# EAGLE library part DISPLAY_TFT_1,8 (library display-TFT-1.8-KMR)
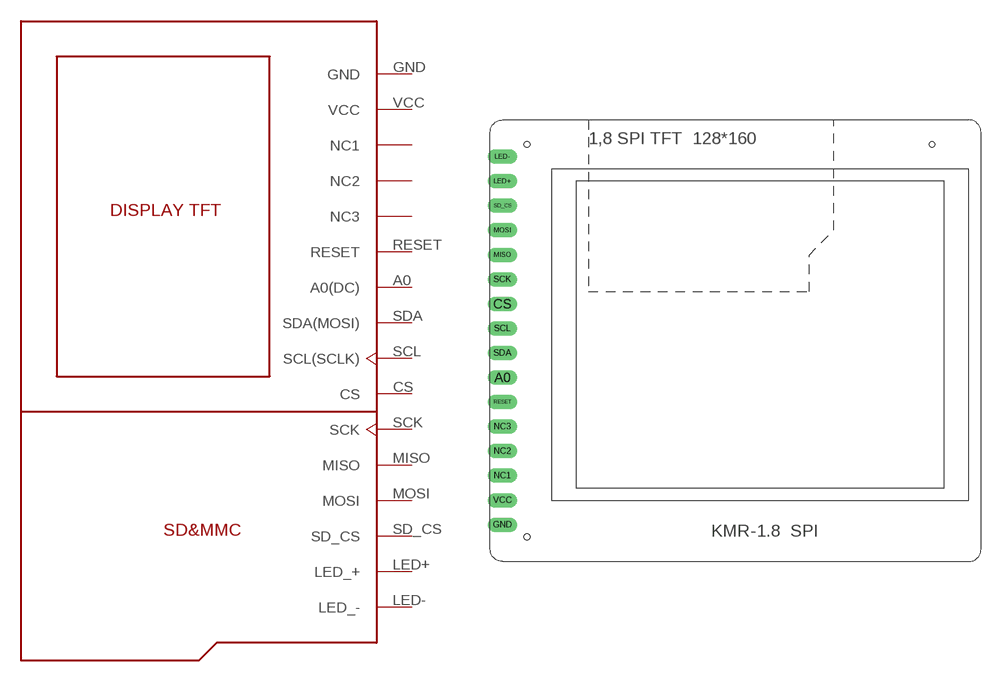
[diagram p0: symbol with the pads of DISPLAY_TFT_1,8-KMR; footprint DISPLAY_TFT_1,8-KMR]

Designator prefix -

## DISPLAY_TFT_1,8  [DISPLAY_TFT_1,8-KMR]
A0  A0(DC)
CS  CS  in
GND  GND  pwr
LED+  LED_+  pwr
LED-  LED_-  pwr
MISO  MISO  out
MOSI  MOSI  in
NC1  NC1  nc
NC2  NC2  nc
NC3  NC3  nc
RESET  RESET  in
SCK  SCK  in
SCL  SCL(SCLK)  in
SD_CS  SD_CS  in
SDA  SDA(MOSI)  in
VCC  VCC  pwr

## Footprint DISPLAY_TFT_1,8-KMR (pad centres in mm)
drill 1 long: A0 -25.4,-3.81; CS -25.4,3.81; GND -25.4,-19.05; LED+ -25.4,16.51; LED- -25.4,19.05; MISO -25.4,8.89; MOSI -25.4,11.43; NC1 -25.4,-13.97; NC2 -25.4,-11.43; NC3 -25.4,-8.89; RESET -25.4,-6.35; SCK -25.4,6.35; SCL -25.4,1.27; SD_CS -25.4,13.97; SDA -25.4,-1.27; VCC -25.4,-16.51
hole 0.6 at -22.86,-20.32
hole 0.6 at -22.86,20.32
hole 0.6 at 19.05,20.32